# EAGLE library part DG85BM-5011-76-1024 (library power_supplies)
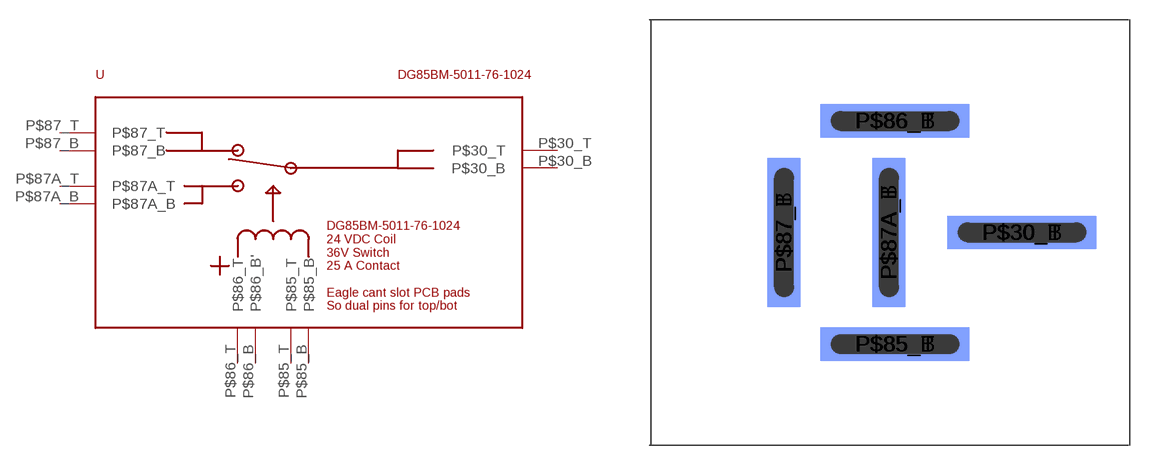
[diagram p2: symbol with the pads of DG85BM-5011-76-1024-TH; footprint DG85BM-5011-76-1024-TH]

Designator prefix U

## DG85BM-5011-76-1024 (MANUFACTURER: Durakool)  [DG85BM-5011-76-1024-TH]
P$30_B  P$30_B
P$30_T  P$30_T
P$85_B  P$85_B
P$85_T  P$85_T
P$86_B  P$86_B'
P$86_T  P$86_T
P$87_B  P$87_B
P$87_T  P$87_T
P$87A_B  P$87A_B
P$87A_T  P$87A_T

## Footprint DG85BM-5011-76-1024-TH (pad centres in mm)
smd 11.2 x 2.5 bottom: P$30_B 17.9,0; P$85_B 8.35,-8.4; P$86_B 8.35,8.4
smd 11.2 x 2.5: P$30_T 17.9,0; P$85_T 8.35,-8.4; P$86_T 8.35,8.4
smd 2.5 x 11.2 bottom: P$87_B 0,0; P$87A_B 7.9,0
smd 2.5 x 11.2: P$87_T 0,0; P$87A_T 7.9,0